# Altium footprint library TSSOP-16(5.0X4.4).PcbLib: 1 footprints
Each footprint in its own frame and in the unit in brackets; x right, y up, seen from the top. Pads: shape width x height; smd on the part's side, far side on the other; paste and mask are expansions set on the pad; w line width, h text height; cw(c..) or ccw(c..) is an arc to the next point about the centre after c.
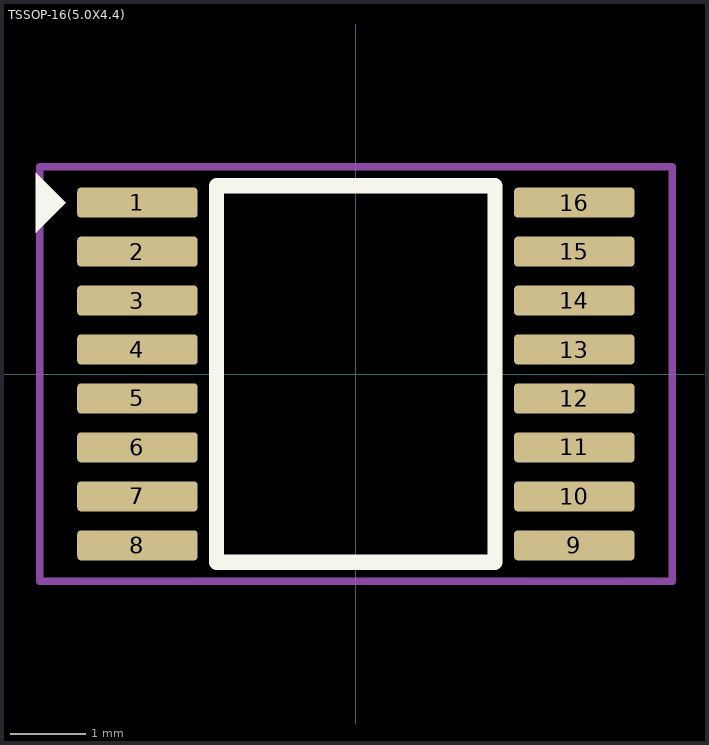
[diagram p0: the footprint, top view; thin cyan lines are the x and y axes]

## TSSOP-16(5.0X4.4) [mm]
pads (16):
  rrect25% 1.6x0.4 smd: 1(-2.9,2.275) 2(-2.9,1.625) 3(-2.9,0.975) 4(-2.9,0.325) 5(-2.9,-0.325) 6(-2.9,-0.975) 7(-2.9,-1.625) 8(-2.9,-2.275) 9(2.9,-2.275) 10(2.9,-1.625) 11(2.9,-0.975) 12(2.9,-0.325) 13(2.9,0.325) 14(2.9,0.975) 15(2.9,1.625) 16(2.9,2.275)
Top Overlay:
  region: -4.25,1.875 -4.25,2.675 -3.85,2.275
  lines w0.2: -1.85,-2.5 1.85,-2.5 1.85,2.5 -1.85,2.5 -1.85,-2.5
Top Courtyard:
  lines w0.1: -4.2,-2.75 4.2,-2.75 4.2,2.75 -4.2,2.75 -4.2,-2.75
3D body "MAX3232IPWR.STEP": height 1.2, standoff 0, extent -3.2,-2.5 3.2,2.5